# Altium footprint library IC.PcbLib: 5 footprints
Each footprint in its own frame and in the unit in brackets; x right, y up, seen from the top. Pads: shape width x height; smd on the part's side, far side on the other; paste and mask are expansions set on the pad; w line width, h text height; cw(c..) or ccw(c..) is an arc to the next point about the centre after c.
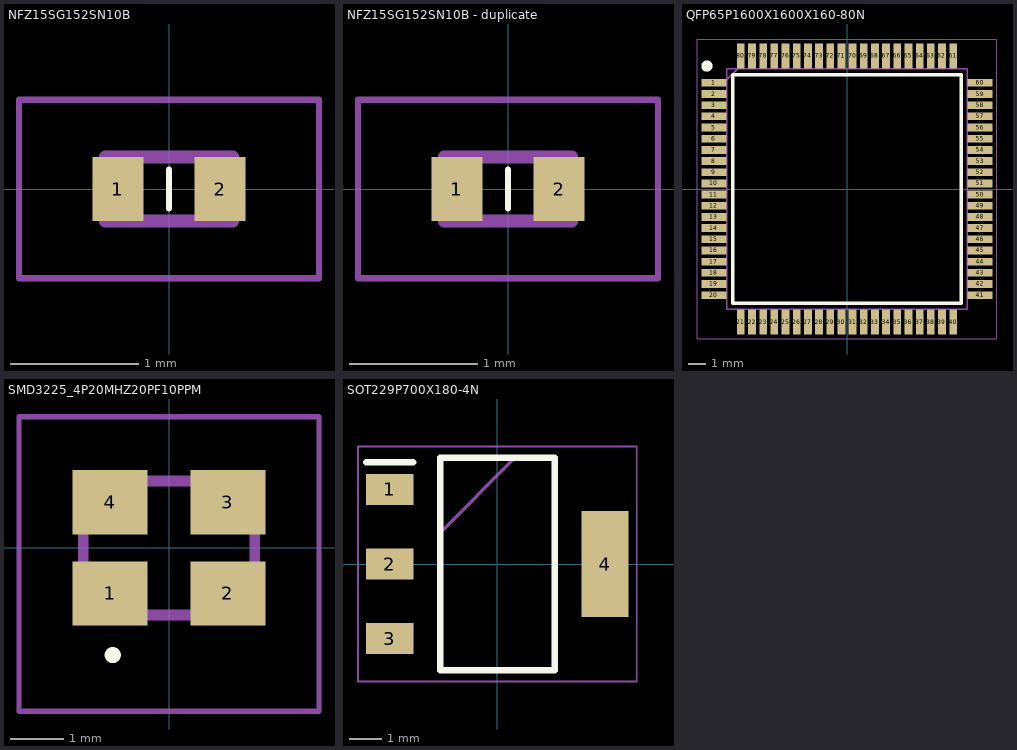
[diagram p0: the footprints below, top view; thin cyan lines are the x and y axes]

## NFZ15SG152SN10B [mm]
pads (2):
  rect 0.4x0.5 smd: 1(-0.4,0) 2(0.4,0)
Top Overlay:
  lines w0.05: 0,-0.15 0,0.15
Mechanical 13:
  lines w0.1: -0.5,-0.25 0.5,-0.25 0.5,0.25 -0.5,0.25 -0.5,-0.25
Mechanical 15:
  lines w0.05: -1.175,-0.7 1.175,-0.7 1.175,0.7 -1.175,0.7 -1.175,-0.7
3D body "BLM15HD182BH1D.stp": height 0.55, standoff 0, extent -0.5,-0.25 0.5,0.25

## NFZ15SG152SN10B - duplicate [mm]
pads (2):
  rect 0.4x0.5 smd: 1(-0.4,0) 2(0.4,0)
Top Overlay:
  lines w0.05: 0,-0.15 0,0.15
Mechanical 13:
  lines w0.1: -0.5,-0.25 0.5,-0.25 0.5,0.25 -0.5,0.25 -0.5,-0.25
Mechanical 15:
  lines w0.05: -1.175,-0.7 1.175,-0.7 1.175,0.7 -1.175,0.7 -1.175,-0.7
3D body "BLM15BB121PN1D.stp": height 0.65, standoff 0, extent -0.56,-0.25 0.56,0.25

## QFP65P1600X1600X160-80N [mm]
pads (80):
  rect 1.475x0.45 smd: 1(-7.738,6.175) 2(-7.738,5.525) 3(-7.738,4.875) 4(-7.738,4.225) 5(-7.738,3.575) 6(-7.738,2.925) 7(-7.738,2.275) 8(-7.738,1.625) 9(-7.738,0.975) 10(-7.738,0.325) 11(-7.738,-0.325) 12(-7.738,-0.975) 13(-7.738,-1.625) 14(-7.738,-2.275) 15(-7.738,-2.925) 16(-7.738,-3.575) 17(-7.738,-4.225) 18(-7.738,-4.875) 19(-7.738,-5.525) 20(-7.738,-6.175) 41(7.738,-6.175) 42(7.738,-5.525) 43(7.738,-4.875) 44(7.738,-4.225) 45(7.738,-3.575) 46(7.738,-2.925) 47(7.738,-2.275) 48(7.738,-1.625) 49(7.738,-0.975) 50(7.738,-0.325) 51(7.738,0.325) 52(7.738,0.975) 53(7.738,1.625) 54(7.738,2.275) 55(7.738,2.925) 56(7.738,3.575) 57(7.738,4.225) 58(7.738,4.875) 59(7.738,5.525) 60(7.738,6.175)
  rect 0.45x1.475 smd: 21(-6.175,-7.738) 22(-5.525,-7.738) 23(-4.875,-7.738) 24(-4.225,-7.738) 25(-3.575,-7.738) 26(-2.925,-7.738) 27(-2.275,-7.738) 28(-1.625,-7.738) 29(-0.975,-7.738) 30(-0.325,-7.738) 31(0.325,-7.738) 32(0.975,-7.738) 33(1.625,-7.738) 34(2.275,-7.738) 35(2.925,-7.738) 36(3.575,-7.738) 37(4.225,-7.738) 38(4.875,-7.738) 39(5.525,-7.738) 40(6.175,-7.738) 61(6.175,7.738) 62(5.525,7.738) 63(4.875,7.738) 64(4.225,7.738) 65(3.575,7.738) 66(2.925,7.738) 67(2.275,7.738) 68(1.625,7.738) 69(0.975,7.738) 70(0.325,7.738) 71(-0.325,7.738) 72(-0.975,7.738) 73(-1.625,7.738) 74(-2.275,7.738) 75(-2.925,7.738) 76(-3.575,7.738) 77(-4.225,7.738) 78(-4.875,7.738) 79(-5.525,7.738) 80(-6.175,7.738)
Top Overlay:
  circle w0.325: c-8.15,7.15 r0.162
  lines w0.2: -6.65,-6.65 6.65,-6.65 6.65,6.65 -6.65,6.65 -6.65,-6.65
Mechanical 13:
  lines w0.1: -7,6.35 -6.35,7 ; -7,-7 7,-7 7,7 -7,7 -7,-7
Mechanical 15:
  lines w0.05: -8.725,-8.725 8.725,-8.725 8.725,8.725 -8.725,8.725 -8.725,-8.725
3D body "AD9854ASTZ.stp": height 1.6, standoff 0, extent -8,-8 8,8

## SMD3225_4P20MHZ20PF10PPM [mm]
pads (4):
  rect 1.4x1.2 smd: 1(-1.1,-0.85) 2(1.1,-0.85) 3(1.1,0.85) 4(-1.1,0.85)
Top Overlay:
  lines w0.2: -1.1,-2 ccw(c-1.05,-2) -1,-2 ; -1.1,-2 cw(c-1.05,-2) -1,-2 ; -1.1,-2 ccw(c-1.05,-2) -1,-2
Mechanical 13:
  lines w0.2: -1.6,-1.25 -1.6,1.25 1.6,1.25 1.6,-1.25 -1.6,-1.25
Mechanical 15:
  lines w0.1: -2.8,-3.05 -2.8,2.45 2.8,2.45 2.8,-3.05 -2.8,-3.05
3D body "SMD-3225_4P20MHZ20PF10PPM.stp": height 0.9, standoff 0, extent -1.68,-1.33 1.68,1.33

## SOT229P700X180-4N [mm]
pads (4):
  rect 1.45x0.95 smd: 1(-3.3,2.29) 2(-3.3,0) 3(-3.3,-2.29)
  rect 1.45x3.25 smd: 4(3.3,0)
Top Overlay:
  lines w0.2: -4.025,3.115 -2.575,3.115 ; -1.752,-3.252 -1.752,3.252 1.752,3.252 1.752,-3.252 -1.752,-3.252
Mechanical 13:
  lines w0.1: -1.752,0.962 0.538,3.252 ; -1.752,-3.252 -1.752,3.252 1.752,3.252 1.752,-3.252 -1.752,-3.252
Mechanical 15:
  lines w0.05: -4.275,-3.605 -4.275,3.605 4.275,3.605 4.275,-3.605 -4.275,-3.605
3D body "AMS1117-3.3.stp": height 1.8, standoff 0, extent -3.355,-3.15 3.355,3.15